# Altium footprint library TerminalBlock_Dinkle.PcbLib: 29 footprints (part 2 of 2)
Each footprint in its own frame and in the unit in brackets; x right, y up, seen from the top. Pads: shape width x height; smd on the part's side, far side on the other; paste and mask are expansions set on the pad; w line width, h text height; cw(c..) or ccw(c..) is an arc to the next point about the centre after c.
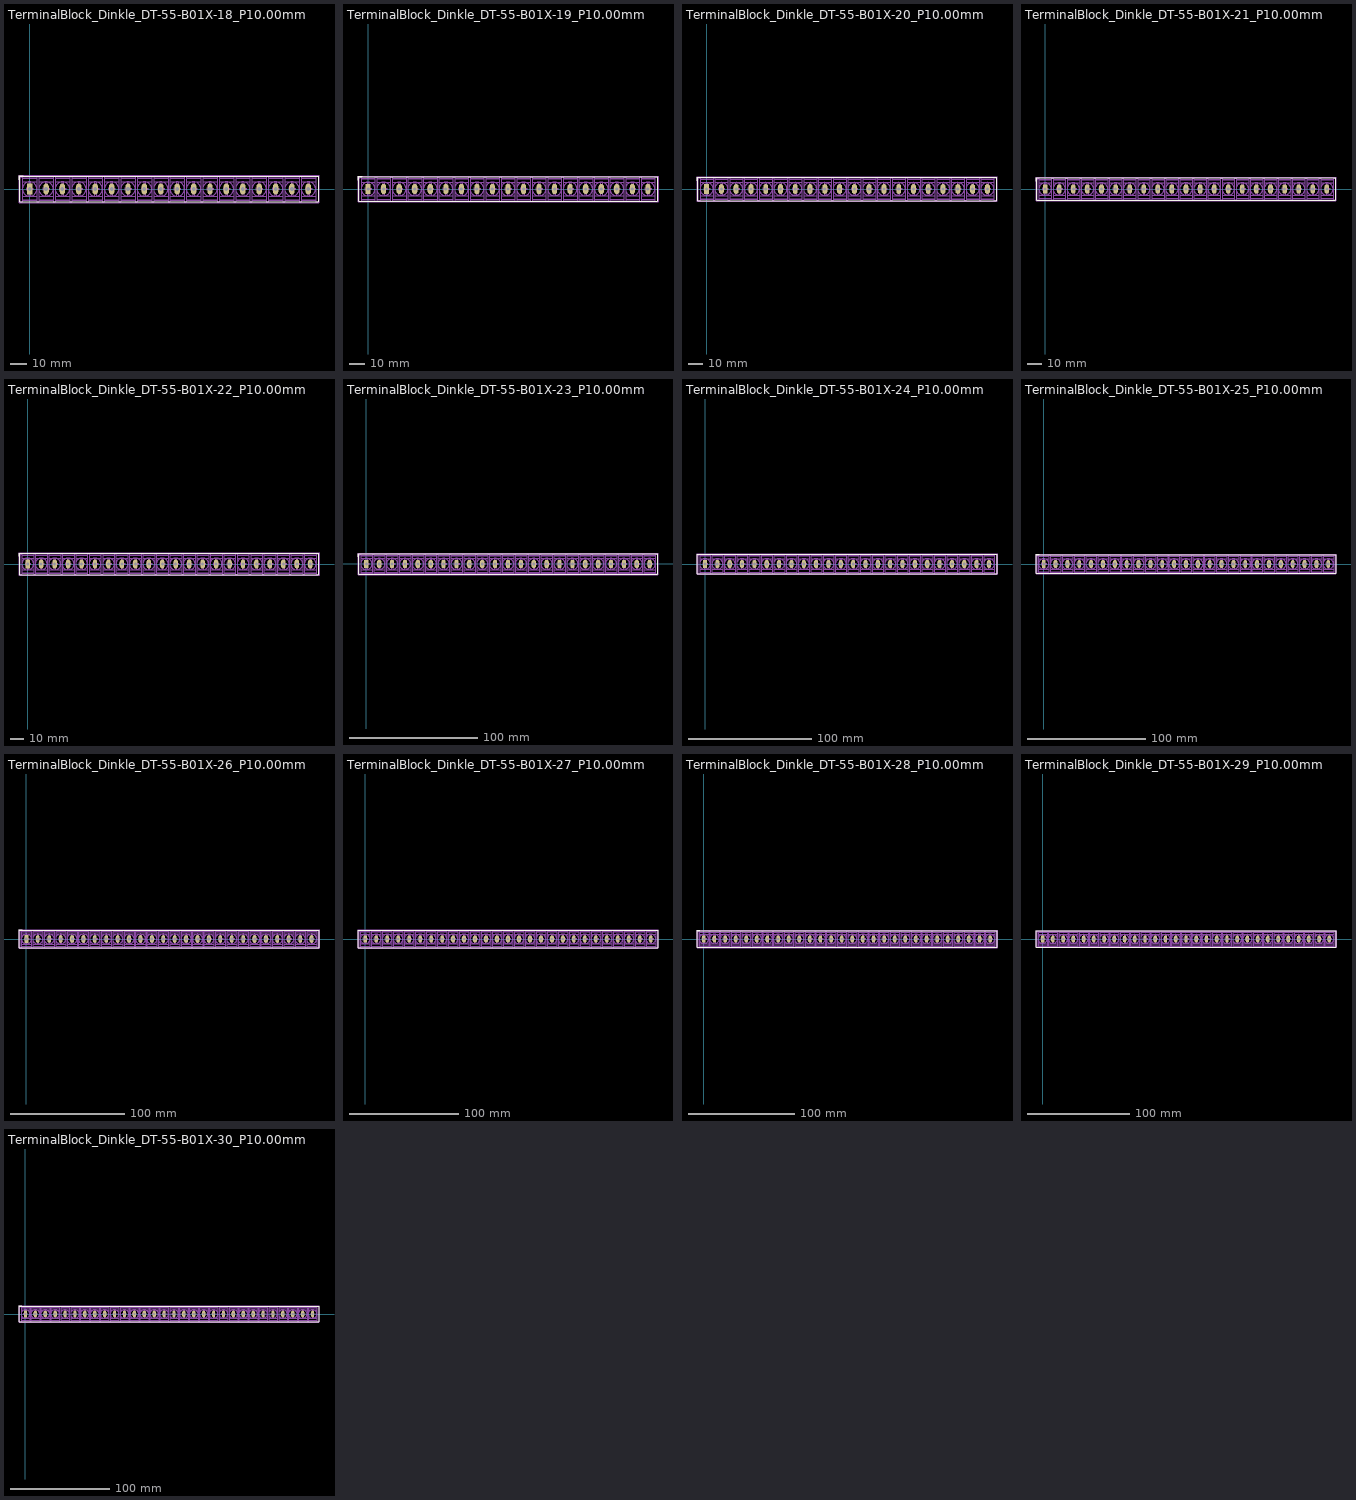
[diagram p1: the footprints below, top view; thin cyan lines are the x and y axes]

## TerminalBlock_Dinkle_DT-55-B01X-18_P10.00mm [mm]
pads (18):
  rect 3.3x6.6 hole 2.2: 1(0,0)
  rrect100% 3.3x6.6 hole 2.2: 2(10,0) 3(20,0) 4(30,0) 5(40,0) 6(50,0) 7(60,0) 8(70,0) 9(80,0) 10(90,0) 11(100,0) 12(110,0) 13(120,0) 14(130,0) 15(140,0) 16(150,0) 17(160,0) 18(170,0)
F.SilkS:
  lines w0.254: -6.35,5.6 -6.35,8.1 -3.85,8.1 ; -6.1,-7.85 -6.1,7.85 176.1,7.85 176.1,-7.85 -6.1,-7.85
F.Fab:
  drawing of 437 lines, arcs and shapes, not listed
  text "'.Designator'" at 81.033,9.32 h1
F.CrtYd:
  lines w0.254: -6.5,-8.25 -6.5,8.25 176.5,8.25 176.5,-8.25 -6.5,-8.25

## TerminalBlock_Dinkle_DT-55-B01X-19_P10.00mm [mm]
pads (19):
  rect 3.3x6.6 hole 2.2: 1(0,0)
  rrect100% 3.3x6.6 hole 2.2: 2(10,0) 3(20,0) 4(30,0) 5(40,0) 6(50,0) 7(60,0) 8(70,0) 9(80,0) 10(90,0) 11(100,0) 12(110,0) 13(120,0) 14(130,0) 15(140,0) 16(150,0) 17(160,0) 18(170,0) 19(180,0)
F.SilkS:
  lines w0.254: -6.35,5.6 -6.35,8.1 -3.85,8.1 ; -6.1,-7.85 -6.1,7.85 186.1,7.85 186.1,-7.85 -6.1,-7.85
F.Fab:
  drawing of 461 lines, arcs and shapes, not listed
  text "'.Designator'" at 86.033,9.32 h1
F.CrtYd:
  lines w0.254: -6.5,-8.25 -6.5,8.25 186.5,8.25 186.5,-8.25 -6.5,-8.25

## TerminalBlock_Dinkle_DT-55-B01X-20_P10.00mm [mm]
pads (20):
  rect 3.3x6.6 hole 2.2: 1(0,0)
  rrect100% 3.3x6.6 hole 2.2: 2(10,0) 3(20,0) 4(30,0) 5(40,0) 6(50,0) 7(60,0) 8(70,0) 9(80,0) 10(90,0) 11(100,0) 12(110,0) 13(120,0) 14(130,0) 15(140,0) 16(150,0) 17(160,0) 18(170,0) 19(180,0) 20(190,0)
F.SilkS:
  lines w0.254: -6.35,5.6 -6.35,8.1 -3.85,8.1 ; -6.1,-7.85 -6.1,7.85 196.1,7.85 196.1,-7.85 -6.1,-7.85
F.Fab:
  drawing of 485 lines, arcs and shapes, not listed
  text "'.Designator'" at 91.033,9.32 h1
F.CrtYd:
  lines w0.254: -6.5,-8.25 -6.5,8.25 196.5,8.25 196.5,-8.25 -6.5,-8.25

## TerminalBlock_Dinkle_DT-55-B01X-21_P10.00mm [mm]
pads (21):
  rect 3.3x6.6 hole 2.2: 1(0,0)
  rrect100% 3.3x6.6 hole 2.2: 2(10,0) 3(20,0) 4(30,0) 5(40,0) 6(50,0) 7(60,0) 8(70,0) 9(80,0) 10(90,0) 11(100,0) 12(110,0) 13(120,0) 14(130,0) 15(140,0) 16(150,0) 17(160,0) 18(170,0) 19(180,0) 20(190,0) 21(200,0)
F.SilkS:
  lines w0.254: -6.35,5.6 -6.35,8.1 -3.85,8.1 ; -6.1,-7.85 -6.1,7.85 206.1,7.85 206.1,-7.85 -6.1,-7.85
F.Fab:
  drawing of 509 lines, arcs and shapes, not listed
  text "'.Designator'" at 96.033,9.32 h1
F.CrtYd:
  lines w0.254: -6.5,-8.25 -6.5,8.25 206.5,8.25 206.5,-8.25 -6.5,-8.25

## TerminalBlock_Dinkle_DT-55-B01X-22_P10.00mm [mm]
pads (22):
  rect 3.3x6.6 hole 2.2: 1(0,0)
  rrect100% 3.3x6.6 hole 2.2: 2(10,0) 3(20,0) 4(30,0) 5(40,0) 6(50,0) 7(60,0) 8(70,0) 9(80,0) 10(90,0) 11(100,0) 12(110,0) 13(120,0) 14(130,0) 15(140,0) 16(150,0) 17(160,0) 18(170,0) 19(180,0) 20(190,0) 21(200,0) 22(210,0)
F.SilkS:
  lines w0.254: -6.35,5.6 -6.35,8.1 -3.85,8.1 ; -6.1,-7.85 -6.1,7.85 216.1,7.85 216.1,-7.85 -6.1,-7.85
F.Fab:
  drawing of 533 lines, arcs and shapes, not listed
  text "'.Designator'" at 101.033,9.32 h1
F.CrtYd:
  lines w0.254: -6.5,-8.25 -6.5,8.25 216.5,8.25 216.5,-8.25 -6.5,-8.25

## TerminalBlock_Dinkle_DT-55-B01X-23_P10.00mm [mm]
pads (23):
  rect 3.3x6.6 hole 2.2: 1(0,0)
  rrect100% 3.3x6.6 hole 2.2: 2(10,0) 3(20,0) 4(30,0) 5(40,0) 6(50,0) 7(60,0) 8(70,0) 9(80,0) 10(90,0) 11(100,0) 12(110,0) 13(120,0) 14(130,0) 15(140,0) 16(150,0) 17(160,0) 18(170,0) 19(180,0) 20(190,0) 21(200,0) 22(210,0) 23(220,0)
F.SilkS:
  lines w0.254: -6.35,5.6 -6.35,8.1 -3.85,8.1 ; -6.1,-7.85 -6.1,7.85 226.1,7.85 226.1,-7.85 -6.1,-7.85
F.Fab:
  drawing of 557 lines, arcs and shapes, not listed
  text "'.Designator'" at 106.033,9.32 h1
F.CrtYd:
  lines w0.254: -6.5,-8.25 -6.5,8.25 226.5,8.25 226.5,-8.25 -6.5,-8.25

## TerminalBlock_Dinkle_DT-55-B01X-24_P10.00mm [mm]
pads (24):
  rect 3.3x6.6 hole 2.2: 1(0,0)
  rrect100% 3.3x6.6 hole 2.2: 2(10,0) 3(20,0) 4(30,0) 5(40,0) 6(50,0) 7(60,0) 8(70,0) 9(80,0) 10(90,0) 11(100,0) 12(110,0) 13(120,0) 14(130,0) 15(140,0) 16(150,0) 17(160,0) 18(170,0) 19(180,0) 20(190,0) 21(200,0) 22(210,0) 23(220,0) 24(230,0)
F.SilkS:
  lines w0.254: -6.35,5.6 -6.35,8.1 -3.85,8.1 ; -6.1,-7.85 -6.1,7.85 236.1,7.85 236.1,-7.85 -6.1,-7.85
F.Fab:
  drawing of 581 lines, arcs and shapes, not listed
  text "'.Designator'" at 111.033,9.32 h1
F.CrtYd:
  lines w0.254: -6.5,-8.25 -6.5,8.25 236.5,8.25 236.5,-8.25 -6.5,-8.25

## TerminalBlock_Dinkle_DT-55-B01X-25_P10.00mm [mm]
pads (25):
  rect 3.3x6.6 hole 2.2: 1(0,0)
  rrect100% 3.3x6.6 hole 2.2: 2(10,0) 3(20,0) 4(30,0) 5(40,0) 6(50,0) 7(60,0) 8(70,0) 9(80,0) 10(90,0) 11(100,0) 12(110,0) 13(120,0) 14(130,0) 15(140,0) 16(150,0) 17(160,0) 18(170,0) 19(180,0) 20(190,0) 21(200,0) 22(210,0) 23(220,0) 24(230,0) 25(240,0)
F.SilkS:
  lines w0.254: -6.35,5.6 -6.35,8.1 -3.85,8.1 ; -6.1,-7.85 -6.1,7.85 246.1,7.85 246.1,-7.85 -6.1,-7.85
F.Fab:
  drawing of 605 lines, arcs and shapes, not listed
  text "'.Designator'" at 116.033,9.32 h1
F.CrtYd:
  lines w0.254: -6.5,-8.25 -6.5,8.25 246.5,8.25 246.5,-8.25 -6.5,-8.25

## TerminalBlock_Dinkle_DT-55-B01X-26_P10.00mm [mm]
pads (26):
  rect 3.3x6.6 hole 2.2: 1(0,0)
  rrect100% 3.3x6.6 hole 2.2: 2(10,0) 3(20,0) 4(30,0) 5(40,0) 6(50,0) 7(60,0) 8(70,0) 9(80,0) 10(90,0) 11(100,0) 12(110,0) 13(120,0) 14(130,0) 15(140,0) 16(150,0) 17(160,0) 18(170,0) 19(180,0) 20(190,0) 21(200,0) 22(210,0) 23(220,0) 24(230,0) 25(240,0) 26(250,0)
F.SilkS:
  lines w0.254: -6.35,5.6 -6.35,8.1 -3.85,8.1 ; -6.1,-7.85 -6.1,7.85 256.1,7.85 256.1,-7.85 -6.1,-7.85
F.Fab:
  drawing of 629 lines, arcs and shapes, not listed
  text "'.Designator'" at 121.033,9.32 h1
F.CrtYd:
  lines w0.254: -6.5,-8.25 -6.5,8.25 256.5,8.25 256.5,-8.25 -6.5,-8.25

## TerminalBlock_Dinkle_DT-55-B01X-27_P10.00mm [mm]
pads (27):
  rect 3.3x6.6 hole 2.2: 1(0,0)
  rrect100% 3.3x6.6 hole 2.2: 2(10,0) 3(20,0) 4(30,0) 5(40,0) 6(50,0) 7(60,0) 8(70,0) 9(80,0) 10(90,0) 11(100,0) 12(110,0) 13(120,0) 14(130,0) 15(140,0) 16(150,0) 17(160,0) 18(170,0) 19(180,0) 20(190,0) 21(200,0) 22(210,0) 23(220,0) 24(230,0) 25(240,0) 26(250,0) 27(260,0)
F.SilkS:
  lines w0.254: -6.35,5.6 -6.35,8.1 -3.85,8.1 ; -6.1,-7.85 -6.1,7.85 266.1,7.85 266.1,-7.85 -6.1,-7.85
F.Fab:
  drawing of 653 lines, arcs and shapes, not listed
  text "'.Designator'" at 126.033,9.32 h1
F.CrtYd:
  lines w0.254: -6.5,-8.25 -6.5,8.25 266.5,8.25 266.5,-8.25 -6.5,-8.25

## TerminalBlock_Dinkle_DT-55-B01X-28_P10.00mm [mm]
pads (28):
  rect 3.3x6.6 hole 2.2: 1(0,0)
  rrect100% 3.3x6.6 hole 2.2: 2(10,0) 3(20,0) 4(30,0) 5(40,0) 6(50,0) 7(60,0) 8(70,0) 9(80,0) 10(90,0) 11(100,0) 12(110,0) 13(120,0) 14(130,0) 15(140,0) 16(150,0) 17(160,0) 18(170,0) 19(180,0) 20(190,0) 21(200,0) 22(210,0) 23(220,0) 24(230,0) 25(240,0) 26(250,0) 27(260,0) 28(270,0)
F.SilkS:
  lines w0.254: -6.35,5.6 -6.35,8.1 -3.85,8.1 ; -6.1,-7.85 -6.1,7.85 276.1,7.85 276.1,-7.85 -6.1,-7.85
F.Fab:
  drawing of 677 lines, arcs and shapes, not listed
  text "'.Designator'" at 131.033,9.32 h1
F.CrtYd:
  lines w0.254: -6.5,-8.25 -6.5,8.25 276.5,8.25 276.5,-8.25 -6.5,-8.25

## TerminalBlock_Dinkle_DT-55-B01X-29_P10.00mm [mm]
pads (29):
  rect 3.3x6.6 hole 2.2: 1(0,0)
  rrect100% 3.3x6.6 hole 2.2: 2(10,0) 3(20,0) 4(30,0) 5(40,0) 6(50,0) 7(60,0) 8(70,0) 9(80,0) 10(90,0) 11(100,0) 12(110,0) 13(120,0) 14(130,0) 15(140,0) 16(150,0) 17(160,0) 18(170,0) 19(180,0) 20(190,0) 21(200,0) 22(210,0) 23(220,0) 24(230,0) 25(240,0) 26(250,0) 27(260,0) 28(270,0) 29(280,0)
F.SilkS:
  lines w0.254: -6.35,5.6 -6.35,8.1 -3.85,8.1 ; -6.1,-7.85 -6.1,7.85 286.1,7.85 286.1,-7.85 -6.1,-7.85
F.Fab:
  drawing of 701 lines, arcs and shapes, not listed
  text "'.Designator'" at 136.033,9.32 h1
F.CrtYd:
  lines w0.254: -6.5,-8.25 -6.5,8.25 286.5,8.25 286.5,-8.25 -6.5,-8.25

## TerminalBlock_Dinkle_DT-55-B01X-30_P10.00mm [mm]
pads (30):
  rect 3.3x6.6 hole 2.2: 1(0,0)
  rrect100% 3.3x6.6 hole 2.2: 2(10,0) 3(20,0) 4(30,0) 5(40,0) 6(50,0) 7(60,0) 8(70,0) 9(80,0) 10(90,0) 11(100,0) 12(110,0) 13(120,0) 14(130,0) 15(140,0) 16(150,0) 17(160,0) 18(170,0) 19(180,0) 20(190,0) 21(200,0) 22(210,0) 23(220,0) 24(230,0) 25(240,0) 26(250,0) 27(260,0) 28(270,0) 29(280,0) 30(290,0)
F.SilkS:
  lines w0.254: -6.35,5.6 -6.35,8.1 -3.85,8.1 ; -6.1,-7.85 -6.1,7.85 296.1,7.85 296.1,-7.85 -6.1,-7.85
F.Fab:
  drawing of 725 lines, arcs and shapes, not listed
  text "'.Designator'" at 141.033,9.32 h1
F.CrtYd:
  lines w0.254: -6.5,-8.25 -6.5,8.25 296.5,8.25 296.5,-8.25 -6.5,-8.25